# Altium schematic symbol library TPS55340.SchLib: 1 symbol
Pins are listed as number, name and electrical type; pins without a type are passive.

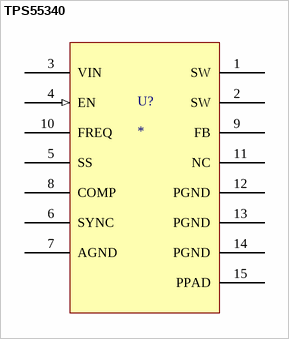
[diagram p0: symbol TPS55340]

## TPS55340
designator U?
pins: 1 SW, 2 SW, 3 VIN (power), 4 EN (in), 5 SS, 6 SYNC, 7 AGND (power), 8 COMP, 9 FB, 10 FREQ, 11 NC, 12 PGND, 13 PGND, 14 PGND, 15 PPAD (power)